# EAGLE library part PTV112 (library PTV112)
Bourns 11mm dual potentiometer
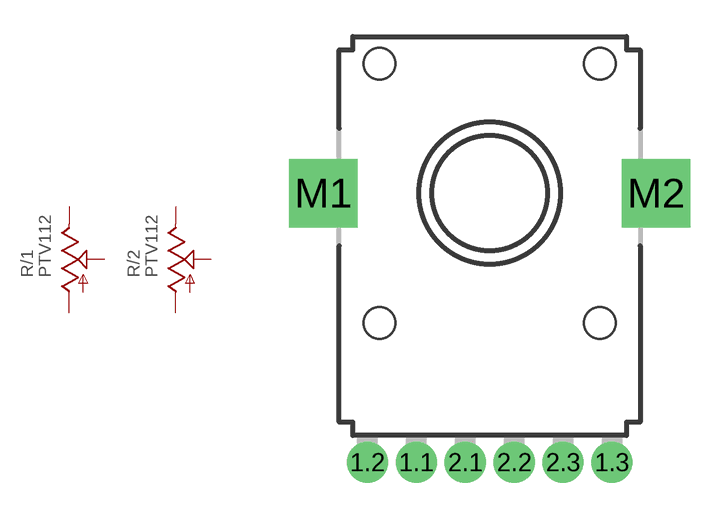
[diagram p0: symbol with the pads of PTV112; footprint PTV112]

Designator prefix R; gates /1=POT /2=POT

## PTV112-4420 (Availability: Unavailable; Description: Alt# Tce-10111410; MF: STMicroelectronics; MP: PTV112; Package: None; Price: None)  [PTV112]
1.1  /1:A  pas
1.2  /1:S  pas
1.3  /1:E  pas
2.1  /2:A  pas
2.2  /2:S  pas
2.3  /2:E  pas

## Footprint PTV112 (pad centres in mm)
drill 1.1 pad 1.676: 1.1 -3,-11; 1.2 -5,-11; 1.3 5,-11; 2.1 -1,-11; 2.2 1,-11; 2.3 3,-11
drill 1.6 pad 2.8 square: M1 -6.8,0; M2 6.8,0